# Altium schematic symbol library Sensirion.SchLib: 1 symbol
Pins are listed as number, name and electrical type; pins without a type are passive.

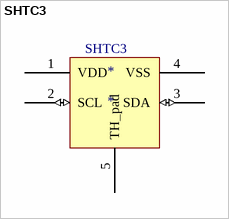
[diagram p0: symbol SHTC3]

## SHTC3
designator *
Humidity and Temperature Sensor IC: - Ultra-low power consumption / - Full battery supply voltage range (1.62 - 3.6 V) / - Small DFN package: 2 × 2 × 0.75 mm3 / - Typical accuracy: ±2 %RH and ±0.2 °C / - Fully calibrated and reflow solderable / - Power-up and measurement within 1 ms; ComponentLink1Description: datasheet; ComponentLink1URL: https://www.sensirion.com/fileadmin/user_upload/customers/sensirion/Dokumente/0_Datasheets/Humidity/Sensirion_Humidity_Sensors_SHTC3_Datasheet.pdf
pins: 1 VDD (power) "Supply voltage", 2 SCL (io) "Serial clock, bidirectional", 3 SDA (io) "Serial data, bidirectional", 4 VSS (power) "Ground", 5 TH_pad "Thermal pad, do not connect"